# Altium integrated library MISKO V2_4_.IntLib: 37 symbols
Pins are listed as number, name and electrical type; pins without a type are passive.

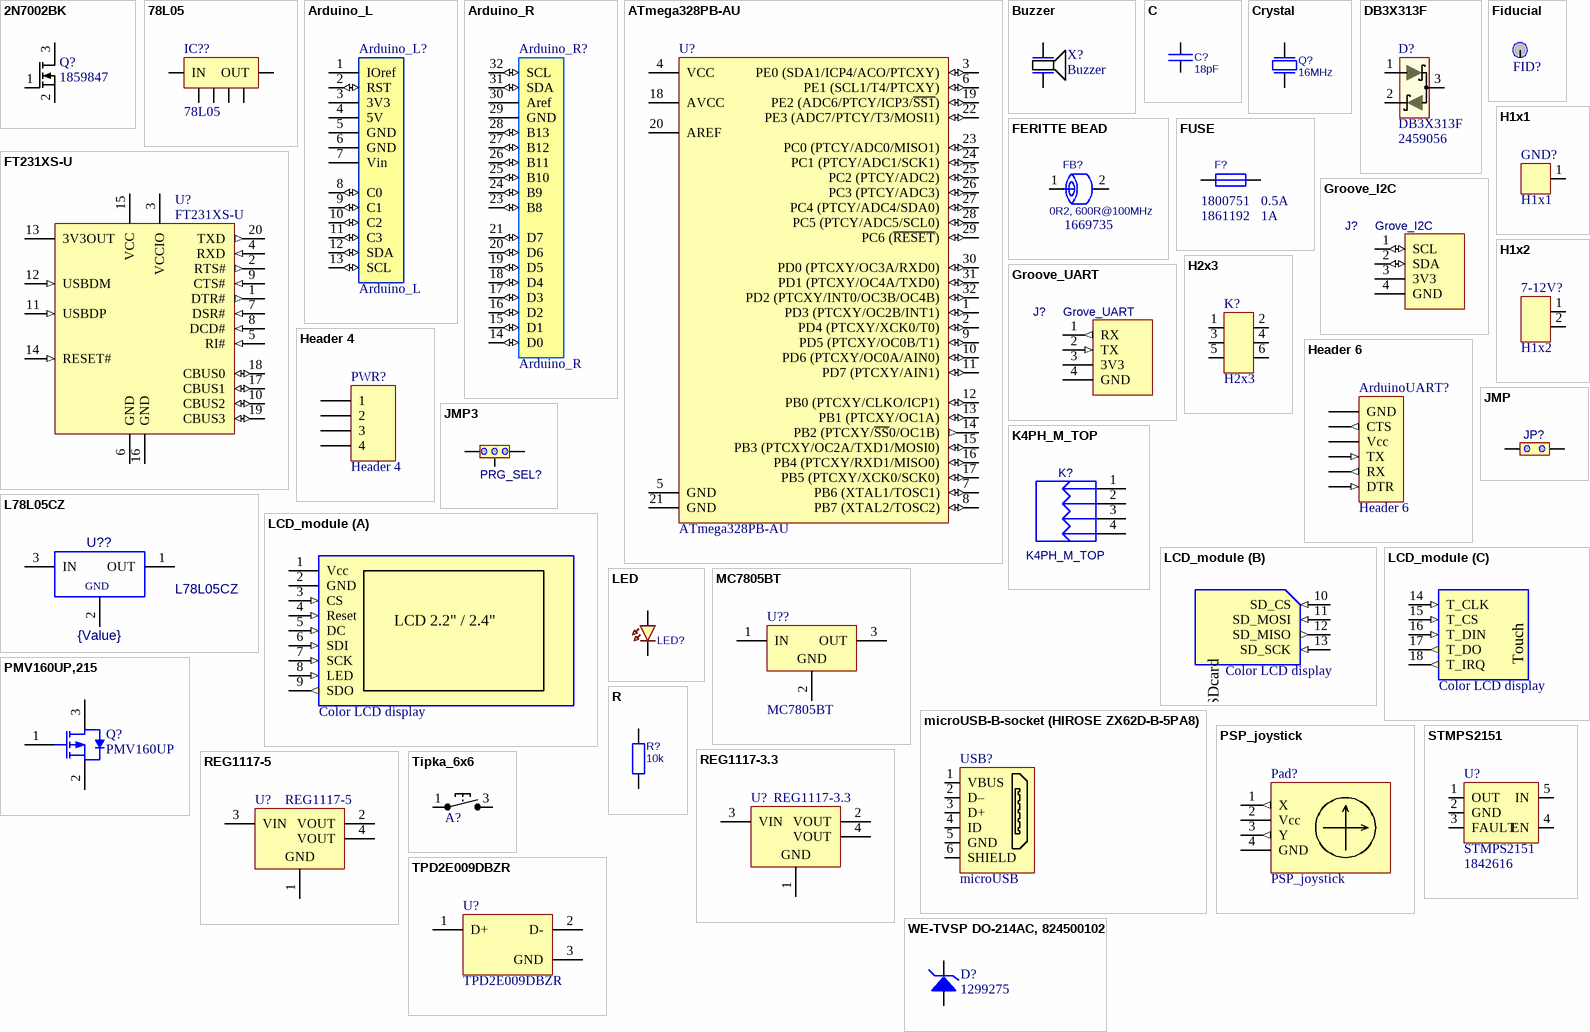
[diagram p0: symbols 2N7002BK to WE-TVSP DO-214AC, 824500102]

## 2N7002BK
designator Q?  Supplier Part Number 1: 1859847  (hidden comment: 2N7002BK)
N-Channel 60V, 350mA; Supplier 1: Farnell
footprint SOT23 (SOT23, 3-Leads, Body 2,98x2,75mm, Pitch 0,95mm, IPC Medium Density)
pins: 1 G, 2 S, 3 D

## 78L05
designator IC??
+5V Voltage Regulator; Manufacturer: Texas Instruments; Part Number: UA78L05ACD; S-TMM Description: IC 78L05 SO8; Farnell: 9593845; Type: IC
footprint SOIC8 (8-Pin Small Outline Integrated Circuit 1.27 mm Pitch, IPC Medium Density); pin to pad IN>8 OUT>1
pins: 2 GND (power), 3 GND (power), 6 GND (power), 7 GND (power), IN (power), OUT (power)

## Arduino_L
designator Arduino_L?
footprint Arduino_L
footprint Arduino_L
pins: 1 IOref (power), 2 RST (io), 3 3V3 (power), 4 5V (power), 5 GND (power), 6 GND (power), 7 Vin (power), 8 C0 (io), 9 C1 (io), 10 C2 (io), 11 C3 (io), 12 SDA (io), 13 SCL (io)

## Arduino_R
designator Arduino_R?
footprint Arduino_R (ArduinoShield compatible)
footprint Arduino_R (ArduinoShield compatible)
pins: 14 D0 (io), 15 D1 (io), 16 D2 (io), 17 D3 (io), 18 D4 (io), 19 D5 (io), 20 D6 (io), 21 D7 (io), 23 B8 (io), 24 B9 (io), 25 B10 (io), 26 B11 (io), 27 B12 (io), 28 B13 (io), 29 GND (power), 30 Aref (power), 31 SDA (io), 32 SCL (io)

## ATmega328PB-AU
designator U?
8-bit AVR Microcontroller, 32KB Flash, 1KB EEPROM, 2KB SRAM, 32-pin TQFP, Industrial Grade (-40°C to 85°C); DatasheetVersion: revC, Oct-2015; PackageReference: 32A; PackageDescription: 32-Lead, 7x7x1.0 mm Body, 0.8mm Lead Pitch, Thin Profile Plastic Quad Flat Package (TQFP); Code_JEDEC: MS-026-ABA; ComponentLink1Description: Manufacturer URL; ComponentLink1URL: http://www.atmel.com/; ComponentLink2Description: ATmega328PB Datasheet; ComponentLink2URL: http://www.atmel.com/Images/Atmel-42397-8-bit-AVR-Microcontroller-ATmega328PB_Datasheet.pdf; ComponentLink3Description: ATmega328P Summary; ComponentLink3URL: http://www.atmel.com/Images/Atmel-42397-8-bit-AVR-Microcontroller-ATmega328PB_Summary.pdf
footprint 32A_N (Thin QFP, 32-Leads, Body 7x7mm, Pitch 0.8mm, IPC Medium Density)
footprint 32A_L (Thin QFP, 32-Leads, Body 7x7mm, Pitch 0.8mm, IPC High Density)
footprint 32A_M (Thin QFP, 32-Leads, Body 7x7mm, Pitch 0.8mm, IPC Low Density)
pins: 1 PD3 (PTCXY/OC2B/INT1) (io), 2 PD4 (PTCXY/XCK0/T0) (io), 3 PE0 (SDA1/ICP4/ACO/PTCXY) (io), 4 VCC (power), 5 GND (power), 6 PE1 (SCL1/T4/PTCXY) (io), 7 PB6 (XTAL1/TOSC1) (io), 8 PB7 (XTAL2/TOSC2) (io), 9 PD5 (PTCXY/OC0B/T1) (io), 10 PD6 (PTCXY/OC0A/AIN0) (io), 11 PD7 (PTCXY/AIN1) (io), 12 PB0 (PTCXY/CLKO/ICP1) (io), 13 PB1 (PTCXY/OC1A) (io), 14 PB2 (PTCXY/~{SS}0/OC1B) (out), 15 PB3 (PTCXY/OC2A/TXD1/MOSI0) (io), 16 PB4 (PTCXY/RXD1/MISO0) (io), 17 PB5 (PTCXY/XCK0/SCK0) (io), 18 AVCC (power), 19 PE2 (ADC6/PTCY/ICP3/~{SS1}) (io), 20 AREF, 21 GND (power), 22 PE3 (ADC7/PTCY/T3/MOSI1) (io), 23 PC0 (PTCY/ADC0/MISO1) (io), 24 PC1 (PTCY/ADC1/SCK1) (io), 25 PC2 (PTCY/ADC2) (io), 26 PC3 (PTCY/ADC3) (io), 27 PC4 (PTCY/ADC4/SDA0) (io), 28 PC5 (PTCY/ADC5/SCL0) (io), 29 PC6 (~{RESET}) (io), 30 PD0 (PTCXY/OC3A/RXD0) (io), 31 PD1 (PTCXY/OC4A/TXD0) (io), 32 PD2 (PTCXY/INT0/OC3B/OC4B) (io)

## Buzzer
designator X?
Piezzo Buzzer; Manufacturer: MULTICOMP; Manufacturer Part Number: MCABT-458-RC; Supply Voltage Min: 1; Supply Voltage Max: 25; Tones: Single; Sound Level SPL: 75; Transducer Function: Sounder; Resonant Frequency: 4; Transducer Mounting: SMD; SVHC: No SVHC (15-Jun-2015)<!--FANDB--><div class="features-and-benefits-container"><div class="features-and-benefits-description"><span class="features-benefits-value">The MCABT-458-RC is a 1mA/25V Piezo Transducer Sounder with LCP housing, surface mount, single tone, 75dB sound level and 4kHz resonant frequency.</span></div><div class="features-and-benefits-list"><ul class="features-and-benefits-list-list"><li class="features-and-benefits-list-item">-30 to 70; Supplier 1: Farnell; RoHS: Y-EX; Stock 1: 683; Pricing 1: 1=1.47, 2=1.33, 3=1.22, 5=1.14, 10=0.949, 20=0.93, 50=0.911, 100=0.892 (GBP); Current Rating: 1; Product Range: -; ComponentLink1URL: http://www.farnell.com/datasheets/1860703.pdf; ComponentLink1Description: http://www.farnell.com/datasheets/1860703.pdf; Supplier Part Number 1: 2433031
footprint Buzzer
pins: 1, 2

## C
designator C?, comment 18pF
Capacitor; Value: 18pF
footprint C0805
footprint C1206
footprint C square R15 (600mil)
footprint C Square R5.08 (200mil)
footprint RCL1210
footprint C0603 (Chip Capacitor, 2-Leads, Body 1,60x0,81mm, IPC Medium Density)
footprint C ceramic F5mm
pins: 1, 2

## Crystal
designator Q?, comment 16MHz
Crystal; Value: 16MHz
footprint Crystal_HC49 (Crystall SMD short HC49)
footprint Crystal_THT_small_lying_down
footprint Crystal_THT_short (Crystal short THT)
footprint Crystal_THT_tall (Crystal tall THT)
footprint Crystal_5x3.2mm
pins: 1, 2

## DB3X313F
designator D?  Supplier Part Number 1: 2459056
Schottky; Supplier 1: Farnell
footprint SOT23 (SOT23, 3-Leads, Body 2,98x2,75mm, Pitch 0,95mm, IPC Medium Density)
pins: 1 "Anode-1", 2 "Cathode-2", 3 "Cathode-1"

## FERITTE BEAD
designator FB?, comment value 0R2, 600R@100MHz  Supplier Part Number 1: 1669735  (hidden comment: FB_0R2)
FERITTE BEAD; Supplier 1: Farnell
footprint R1206
footprint R0805
pins: 1, 2

## Fiducial
designator FID?  (value not drawn)
according to IPC-7351 - is a 1mm diameter round dot with 2mm solder mask opening; Voltage: 50V; Tolerance: 5%; max.Temperature: +125; min.Temperature: -40
footprint Fiducial
pins: F (power)

## FT231XS-U
designator U?
USB to Full-Handshake UART Interface Chip, UHCI/OHCI/EHCI Compatible, USB 2.0 Compatible, -40 to +85 degC, 20-Pin SSOP, Pb-Free, Tube; Manufacturer: FTDI; DatasheetVersion: ver 1.2, Feb-2013; PackageVersion: Feb-13; PackageReference: SSOP-20; PackageDescription: 20-Pin Small Outline Package, 8.6 x 3.9 mm Body, 0.635 mm Pitch; Code_JEDEC: MO-137-AD; PartNumber: FT231XS-U; ComponentLink1Description: Manufacturer URL; ComponentLink1URL: http://www.ftdichip.com/; ComponentLink2Description: Datasheet; ComponentLink2URL: http://www.ftdichip.com/Support/Documents/DataSheets/ICs/DS_FT231X.pdf; ComponentLink3Description: FT231X Product Page; ComponentLink3URL: www.ftdichip.com/Products/ICs/FT231X.html
footprint SSOP-20_N (SOP, 20-Leads, Body 8.6x3.9mm, Pitch 0.635mm, IPC Medium Density)
footprint SSOP-20_L (SOP, 20-Leads, Body 8.6x3.9mm, Pitch 0.635mm, IPC High Density)
footprint SSOP-20_M (SOP, 20-Leads, Body 8.6x3.9mm, Pitch 0.635mm, IPC Low Density)
pins: 1 DTR# (out) "Data Terminal Ready Control Output / Handshake Signal.", 2 RTS# (out) "Request to Send Control Output / Handshake Signal.", 3 VCCIO (power) "1V8 -3V3 supply for the IO cells.", 4 RXD (in) "Receiving Asynchronous Data Input.", 5 RI# (in) "Ring Indicator input for remote wake up.", 6 GND (power) "0V Ground input.", 7 DSR# (in) "Data Set Ready Control Input / Handshake Signal.", 8 DCD# (in) "Data Carrier Detect Control Input.", 9 CTS# (in) "Clear To Send Control Input / Handshake Signal.", 10 CBUS2 (io) "Configurable CBUS I/O Pin. Function of this pin is configured in the device MTP memory. The default configuration is TXLED#.", 11 USBDP (in) "USB Data Signal Plus.", 12 USBDM (in) "USB Data Signal Minus.", 13 3V3OUT (power) "3V3 output at 50mA. May be used to power VCCIO. When VCC is 3V3, pin 13 is an input pin.", 14 RESET# (in) "Reset input (active low).", 15 VCC (power) "5 V (or 3V3) supply to IC.", 16 GND (power) "0V Ground input.", 17 CBUS1 (io) "Configurable CBUS I/O Pin. Function of this pin is configured in the device MTP memory. The default configuration is RXLED#.", 18 CBUS0 (io) "Configurable CBUS I/O Pin. Function of this pin is configured in the device MTP memory. The default configuration is TXDEN.", 19 CBUS3 (io) "Configurable CBUS I/O Pin. Function of this pin is configured in the device MTP memory. The default configuration is SLEEP#.", 20 TXD (out) "Transmit Asynchronous Data Output."

## FUSE
designator F?, comment Supplier Part Number 1: 1800751  Supplier Part Number 2: 1861192  Value 2: 1A  (hidden comment: 0.5A)
FUSE; Manufacturer: MULTICOMP; Manufacturer Part Number: MC33191; Supplier 1: Farnell; RoHS: YES; Stock 1: 2531; Pricing 1: 5=0.158, 50=0.126, 100=0.114, 250=0.0945, 500=0.0756 (EUR); ComponentLink1URL: http://www.farnell.com/datasheets/1697629.pdf; ComponentLink1Description: http://www.farnell.com/datasheets/1697629.pdf; Supplier 2: Farnell; Stock 2: 6913; Pricing 2: 5=0.131, 50=0.114, 100=0.101, 250=0.0901, 500=0.08 (EUR); ComponentLink2URL: http://www.farnell.com/datasheets/1678471.pdf; ComponentLink2Description: http://www.farnell.com/datasheets/1678471.pdf; Value: 0.5A
footprint R0805
footprint R1206
pins: 1, 2

## Groove_I2C
designator J?, comment Grove_I2C
Groove connector; Value: {Value}
footprint Groove
pins: 1 SCL (io), 2 SDA (io), 3 3V3 (power), 4 GND (power)

## Groove_UART
designator J?, comment Grove_UART
Groove connector; Value: {Value}
footprint Groove
pins: 1 RX (out), 2 TX (in), 3 3V3 (power), 4 GND (power)

## H1x1
designator GND?
Header 1x1 (male)
footprint H1x1
pins: 1

## H1x2
designator 7-12V?
Header 1x2 (male)
footprint H1x2
pins: 1, 2

## H2x3
designator K?
Header 2x3 (male)
footprint H2x3
footprint H2x3 90
footprint H2X3_SPEEDY
footprint H2X3_90_SPEEDY
footprint H2X3-edge-SPEEDY
pins: 1, 2, 3, 4, 5, 6
1 alternate drawing of the same symbol

## Header 4
designator PWR?
Header, 4-Pin; LatestRevisionDate: 17-Jul-2002; LatestRevisionNote: Re-released for DXP Platform.; Publisher: Altium Limited
footprint HDR1X4 (Connector; Header; 4 Position)
signal-integrity model Connector
pins: 1, 2, 3, 4

## Header 6
designator ArduinoUART?
Header, 6-Pin; LatestRevisionDate: 17-Jul-2002; LatestRevisionNote: Re-released for DXP Platform.; Publisher: Altium Limited
footprint HDR1X6 (Connector; Header; 6 Position)
signal-integrity model Connector
pins: 1 GND (power), 2 CTS (out), 3 Vcc (power), 4 TX (in), 5 RX (out), 6 DTR (in)

## JMP
designator JP?  (value not drawn)
Value: {Value}
footprint H1x2
footprint H1x2+solderJumper
footprint solderJumper
pins: 1, 2

## JMP3
designator PRG_SEL?  (value not drawn)
Value: {Value}
footprint H1x3; pin to pad 2>3 3>2
pins: 1, 2, 3

## K4PH_M_TOP
designator K?
Value: {Value}
footprint K4PH_M_TOP
pins: 1, 2, 3, 4

## L78L05CZ
designator U??  value {Value}
Positive Voltage Regulator; OriginalName: L78L05ABZ; ComponentField7: Published 24-Aug-2001
footprint BCY-W3
footprint SOT89-3 (SOT89, 5-Leads, Body 4.5x2.4mm (max), Pitch 1.50mm, Lead Span 4.1mm, IPC Medium Density)
pins: 1 OUT (power), 2 GND (power), 3 IN (power)

## LCD_module
designator LCD?, comment Color LCD display
2.2" or 2.4" LCD_module w/o Touch
footprint LCD_display (Footprint not found)
part A pins: 1 Vcc, 2 GND (power), 3 CS (in), 4 Reset (in), 5 DC (in), 6 SDI (in), 7 SCK (in), 8 LED (in), 9 SDO (out), M0 Screw hidden to GND
part B pins: 10 SD_CS (in), 11 SD_MOSI (in), 12 SD_MISO (out), 13 SD_SCK (in)
part C pins: 14 T_CLK (in), 15 T_CS (in), 16 T_DIN (in), 17 T_DO (out), 18 T_IRQ (out)
part A text: LCD 2.2" / 2.4"
part B text: SDcard
part C text: Touch

## LED
designator LED?, comment GREEN  (value not drawn)
LED; Value: {Value}
footprint LED0805G (LED SMD 0805 GREEN); pin to pad A>1 K>2
footprint LED0805 (LED SMD 0805); pin to pad A>1 K>2
footprint LED0805R (LED SMD 0805 RED); pin to pad A>1 K>2
footprint LED3mm (Led THT Round 3mm)
footprint LED3mmG (Led THT Round 3mm GREEN)
footprint LED3mmR (Led THT Round 3mm RED)
footprint LED3mmy (Led THT Round 3mm YELLOW)
footprint LED5mm (Led THT Round 5mm)
footprint LED5mmG (Led THT Round 5mm GREEN)
footprint LED5mmO (Led THT Round 5mm Orange)
footprint LED5mmR (Led THT Round 5mm RED)
footprint LED5mmY (Led THT Round 5mm YELLO)
footprint LED0603 (LED SMD 0603); pin to pad A>1 K>2
footprint LED1206G (SMD LED 1206 GREEN); pin to pad A>1 K>2
footprint LED1206R (SMD LED 1206 RED); pin to pad A>1 K>2
footprint LED1206Y (SMD LED 1206 YELLOW); pin to pad A>1 K>2
pins: A 1, K 2

## MC7805BT
designator U??
3-Terminal Positive Fixed Voltage Regulator; Note: Pin 2 is electrically connected to TAB; Published: 17-Jul-2002; DatasheetVersion: 1988; PackageReference: 221A-04; Publisher: Altium Limited; PackageDescription: TO, Thru-Hole, Vertical, Heatsink Mounted; 3 In-Line Leads; Pitch 2.54 mm; Code_JEDEC: TO-262-AA; ComponentLink1Description: Manufacturer Link; ComponentLink1URL: http://www.onsemi.com/site/products/taxonomy/0,4438,503,00.html; ComponentLink2Description: Datasheet; ComponentLink2URL: http://www.onsemi.com/pub/Collateral/MC7800-D.PDF
footprint 221A-04 (TO, Thru-Hole, Vertical, Heatsink Mounted; 3 In-Line Leads; Pitch 2.54 mm)
pins: 1 IN (power), 2 GND (power), 3 OUT (power)

## microUSB-B-socket (HIROSE ZX62D-B-5PA8)
designator USB?, comment microUSB
micro USB-B socket (HIROSE ZX62D-B-5PA8); Supplier 1: Farnell; ComponentLink1URL: http://www.farnell.com/datasheets/1693470.pdf; ComponentLink1Description: http://www.farnell.com/datasheets/1693470.pdf; Supplier Part Number 1: 2300438
footprint micro-USB-HRS-ZX62D-B-5PA8; pin to pad 6>0
pins: 1 VBUS, 2 D–, 3 D+, 4 ID, 5 GND, 6 SHIELD

## PMV160UP,215
designator Q?, comment PMV160UP
P-Channel Trench MOSFET, -20 V, -1.2 A, -55 to 150 degC, 3-Pin SOT23, Tape and Reel; Manufacturer: NXP Semiconductors; PartNumber: PMV160UP,215; Channel Type: P; Ciss [typ] (pF): 365; Coss [typ] (pF): 42; Packing: Tape & Reel; VGSth [typ] (V): -0.7; DatasheetVersion: Rev. 2; PackageVersion: 06-03-16, 03/2006; PackageReference: SOT23; PackageDescription: 3-Pin Small Outline Transistor Package, Body 2.9 x 1.3 mm, Pitch 0.95 mm; Supplier 1: Digi-Key; Supplier Part Number 1: 568-10320-2-ND; Supplier 2: Digi-Key; Supplier Part Number 2: 568-10320-1-ND; Supplier 3: Digi-Key; Supplier Part Number 3: 568-10320-6-ND; Supplier 4: Newark; Supplier Part Number 4: 54T9404; Supplier 5: Mouser; Supplier Part Number 5: 771-PMV160UP215; ID [max] (A): -1.2; VDS [max] (V): -20; Mounting Technology: Surface Mount; Code_JEDEC: TO-236AB; ComponentLink1Description: Manufacturer URL; ComponentLink1URL: http://www.nxp.com/; ComponentLink2Description: Datasheet; ComponentLink2URL: http://www.nxp.com/documents/data_sheet/PMV160UP.pdf; ComponentLink3Description: Package Specification; ComponentLink3URL: http://www.nxp.com/documents/outline_drawing/sot023_po.pdf
footprint NXP-SOT23_N (SOT23, 3-Leads, Body 3x1.4mm, Pitch 0.95mm, IPC Medium Density)
footprint NXP-SOT23_L (SOT23, 3-Leads, Body 3x1.4mm, Pitch 0.95mm, IPC High Density)
footprint NXP-SOT23_M (SOT23, 3-Leads, Body 3x1.4mm, Pitch 0.95mm, IPC Low Density)
pins: 1 G "gate", 2 S "source", 3 D "drain"

## PSP_joystick
designator Pad?
footprint PSP_joystick
pins: 1 X (out), 2 Vcc (power), 3 Y (out), 4 GND (power)

## R
designator R?, comment 10k
R; Value: 10k
footprint R0805
footprint R1206
footprint R400
footprint R300
footprint R500
footprint R0603 (Chip Resistor, 2-Leads, Body 1,55x0,85mm, IPC Medium Density)
pins: 1, 2

## REG1117-3.3
designator U?
Single Output LDO, 800 mA, Fixed 3.3 V Output, 3.8 to 15 V Input, with Internal Current Limiting, 4-pin SOT-223 (DCY), -40 to 125 degC, Green (RoHS & no Sb/Br); Manufacturer: Texas Instruments; Fixed Output Options(V): 5; Iout(Max)(A): 0.8; Iq(Typ)(mA): 4; Rating: Catalog; SubFamily: Single Channel LDO; Vdo(Typ)(mV): 1100; Vin(Max)(V): 15; Vin(Min)(V): 3.8; Vout Adj(Max)(V): 3.3; DatasheetVersion: SBVS001D; PackageVersion: 4202506/B; PackageReference: DCY4; PackageDescription: 4-Pin Plastic Small Outline, Body 3.5 x 6.5 mm, Pitch 2.3 mm; Supplier 1: Digi-Key; Supplier Part Number 1: REG1117-3.3-ND; Supplier 2: Farnell; Supplier Part Number 2: 1212355; Supplier 3: Farnell; Supplier Part Number 3: 2126471; Supplier 4: Newark; Supplier Part Number 4: 35C1963; Supplier 5: Mouser; Supplier Part Number 5: 595-REG1117-3.3; Eco-Plan: Green (RoHS & no Sb/Br); Vout Adj(Min)(V): 3.3; Mounting Technology: Surface Mount; Code_JEDEC: TO-261; PartNumber: REG1117-3.3; ComponentLink1Description: Manufacturer URL; ComponentLink1URL: http://www.ti.com/; ComponentLink2Description: Datasheet; ComponentLink2URL: http://www.ti.com/general/docs/lit/getliterature.tsp?genericPartNumber=REG1117-33&fileType=pdf; ComponentLink3Description: Package Specification; ComponentLink3URL: http://www.ti.com/litv/pdf/mpds094a
footprint TI-DCY4_N (SOT223, 4-Leads, Body 6.5x3.5mm, Pitch 2.3mm, IPC Medium Density)
footprint TI-DCY4_L (SOT223, 4-Leads, Body 6.5x3.5mm, Pitch 2.3mm, IPC High Density)
footprint TI-DCY4_M (SOT223, 4-Leads, Body 6.5x3.5mm, Pitch 2.3mm, IPC Low Density)
pins: 1 GND (power), 2 VOUT (power), 3 VIN (power), 4 VOUT (power)

## REG1117-5
designator U?
Single Output LDO, 800 mA, Fixed 5 V Output, 3.8 to 15 V Input, with Internal Current Limiting, 4-pin SOT-223 (DCY), -40 to 125 degC, Green (RoHS & no Sb/Br); Manufacturer: Texas Instruments; Iout(Max)(A): 0.8; Iq(Typ)(mA): 4; Rating: Catalog; SubFamily: Single Channel LDO; Vdo(Typ)(mV): 1100; Vin(Max)(V): 15; Vin(Min)(V): 3.8; Vout Adj(Max)(V): 5; DatasheetVersion: SBVS001D; PackageVersion: 4202506/B; PackageReference: DCY4; PackageDescription: 4-Pin Plastic Small Outline, Body 3.5 x 6.5 mm, Pitch 2.3 mm; Supplier 1: Digi-Key; Supplier Part Number 1: REG1117-5-ND; Supplier 2: Farnell; Supplier Part Number 2: 1212858; Supplier 3: Farnell; Supplier Part Number 3: 1212858RL; Supplier 4: Newark; Supplier Part Number 4: 20M1510; Supplier 5: Mouser; Supplier Part Number 5: 595-REG1117-5; Eco-Plan: Green (RoHS & no Sb/Br); Vout Adj(Min)(V): 5; Mounting Technology: Surface Mount; Code_JEDEC: TO-261; PartNumber: REG1117-5; ComponentLink1Description: Manufacturer URL; ComponentLink1URL: http://www.ti.com/; ComponentLink2Description: Datasheet; ComponentLink2URL: http://www.ti.com/general/docs/lit/getliterature.tsp?genericPartNumber=REG1117-5&fileType=pdf; ComponentLink3Description: Package Specification; ComponentLink3URL: http://www.ti.com/litv/pdf/mpds094a
footprint TI-DCY4_N (SOT223, 4-Leads, Body 6.5x3.5mm, Pitch 2.3mm, IPC Medium Density)
footprint TI-DCY4_L (SOT223, 4-Leads, Body 6.5x3.5mm, Pitch 2.3mm, IPC High Density)
footprint TI-DCY4_M (SOT223, 4-Leads, Body 6.5x3.5mm, Pitch 2.3mm, IPC Low Density)
pins: 1 GND (power), 2 VOUT (power), 3 VIN (power), 4 VOUT (power)

## STMPS2151
designator U?  Supplier Part Number 1: 1842616
switch, high-side, 0.5A, 2.7V-5.5V; Supplier 1: Farnell
footprint SOT23-5
pins: 1 OUT, 2 GND, 3 FAULT, 4 EN, 5 IN

## Tipka_6x6
designator A?  (value not drawn)
tactile switch SMD
footprint Tipka 6x6; pin to pad 1>1+2 3>3+4
pins: 1, 3

## TPD2E009DBZR
designator U?
ESD Protection Array for High-Speed Data Interfaces, 2 Channels, -40 to +85 degC, 3-pin SOT-23 (DBZ), Green (RoHS & no Sb/Br); Manufacturer: Texas Instruments; Breakdown Voltage(Min)(V): 9; Differential Capacitance(pF): 0.01; IEC 61000-4-2 Air-Gap(+/- kV): 8; IO Capacitance(Typ)(pF): 0.7; IO Leakage Current(nA): 10; Serial ATA / eSATA: TRUE; SubFamily: ESD Solution; DatasheetVersion: SLVS953A; PackageVersion: revB, Apr-2005; PackageReference: DBZ3; PackageDescription: 3-Pin Plastic Small-Outline Package, 0.95 mm Pitch, 2.4 mm Lead Span; Supplier 1: Digi-Key; Supplier Part Number 1: 296-24657-2-ND; Supplier 2: Digi-Key; Supplier Part Number 2: 296-24657-1-ND; Supplier 3: Digi-Key; Supplier Part Number 3: 296-24657-6-ND; Supplier 4: Farnell; Supplier Part Number 4: 1755715RL; Supplier 5: Farnell; Supplier Part Number 5: 1755715; Supplier 6: Newark; Supplier Part Number 6: 14R9549; Supplier 7: Mouser; Supplier Part Number 7: 595-TPD2E009DBZR; Eco-Plan: Green (RoHS & no Sb/Br); IEC 61000-4-2 Contact(+/- kV): 8; Mounting Technology: Surface Mount; Code_JEDEC: TO-236-AB; PartNumber: TPD2E009DBZR; ComponentLink1Description: Datasheet; ComponentLink1URL: http://www.ti.com/general/docs/lit/getliterature.tsp?genericPartNumber=TPD2E009&fileType=pdf; ComponentLink2Description: URL Link1; ComponentLink2URL: SamplesURL:http://www.ti.com/product/tpd2e009#samples
footprint DBZ3_N (SOT23, 3-Leads, Body 2.9x1.3mm, Pitch 0.95mm, Lead Span 2.4mm, IPC Medium Density)
footprint DBZ3_L (SOT23, 3-Leads, Body 2.9x1.3mm, Pitch 0.95mm, Lead Span 2.4mm, IPC High Density)
footprint DBZ3_M (SOT23, 3-Leads, Body 2.9x1.3mm, Pitch 0.95mm, Lead Span 2.4mm, IPC Low Density)
pins: 1 D+ "High-speed ESD clamp, provides ESD protection to the high-speed differential data lines", 2 D- "High-speed ESD clamp, provides ESD protection to the high-speed differential data lines", 3 GND (power) "Ground"

## WE-TVSP DO-214AC, 824500102
designator D?, comment Supplier Part Number 1: 1299275  (hidden comment: Unidirectional, 400 W, 100 VDC)
WE-TVSP Power TVS Diode, Unidirectional, 400 W, 100 VDC; partNo: 824500102; Manufacturer: Wurth Elektronik; Manufacturer Part Number: SK24A; Repetitive Reverse Voltage Vrrm Max: 40; Forward Current If(AV): 2; Diode Configuration: Single; Diode Case Style: DO-214; Forward Voltage VF Max: 500; Forward Surge Current Ifsm Max: 50; Product Range: SK Series; SVHC: No SVHC (17-Dec-2015); Diode Type: Schottky; Junction Temperature Tj Max: 125; Junction Temperature Tj Min: -65; ComponentLink1Description: Manufacturer; ComponentLink1URL: http://www.we-online.de; Created by: Baojun Chen; Created Date: Nov.2015; ComponentLink2Description: Datasheet; ComponentLink2URL: http://katalog.we-online.de/pbs/datasheet/824500102.pdf; Supplier 1: Farnell; RoHS: YES; Stock 1: 30726; Pricing 1: 5=0.071, 100=0.0686, 250=0.0662, 1000=0.0638, 3600=0.0614, 20000=0.059, 50000=0.057, 90000=0.055 (EUR); No. of Pins: 2; Operating Temperature Max: 125; Packaging: Cut Tape; Automotive Qualification Standard: -; Alternate Case Style: DO-214; Current Ifsm: 50; Current Ir Max: 500; Forward Voltage: 500; MSL: MSL 1 - Unlimited; Operating Temperature Min: -65; Operating Temperature Range: -65°C to +125; Reverse Voltage Vr Max: 40; Termination Type: Surface Mount Device<!--FANDB--><div class="features-and-benefits-container"><div class="features-and-benefits-description"><span class="features-benefits-value">The SK24A is a surface-mount Schottky Barrier Rectifier with moulded plastic case and solder-plated terminals.</span></div><div class="features-and-benefits-list"><ul class="features-and-benefits-list-list"><li class="features-and-benefits-list-item">Polarity is indicated by cathode band</li><li class="features-and-benefits-list-item">Metal to silicon rectifier, majority carrier conduction</li><li class="features-and-benefits-list-item">Low forward voltage drop</li><li class="features-and-benefits-list-item">Easy pick and place</li><li class="features-and-benefits-list-item">High surge current capability</li><li class="features-and-benefits-list-item">UL94V-0 Flammability rating</li><li class="features-and-benefits-list-item">Epitaxial construction</li><li class="features-and-benefits-list-item">260°C/10; ComponentLink3URL: http://www.farnell.com/datasheets/51631.pdf; ComponentLink3Description: http://www.farnell.com/datasheets/51631.pdf
footprint DO-214AC_Unidirectional
pins: 1, 2